# Altium schematic symbol library BQ25628E.SchLib: 1 symbol
Pins are listed as number, name and electrical type; pins without a type are passive.

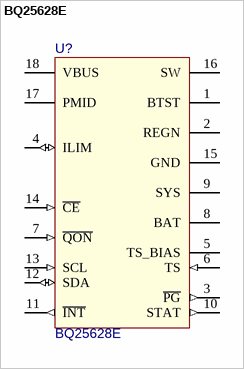
[diagram p0: symbol BQ25628E]

## BQ25628E
designator U?
I2C Controlled 1-Cell, 2A, Maximum 18V Input, Buck Battery Charger with / NVDC Power Path Management; Value: BQ25628E
footprint WQFN-HR-18(RYK)
pins: 1 BTST (power), 2 REGN (power), 3 ~{PG} (out), 4 ILIM (io), 5 TS_BIAS, 6 TS (in), 7 ~{QON} (in) "BATFET Enable or System Power Reset Control Input", 8 BAT (power), 9 SYS (power), 10 STAT (out), 11 ~{INT} (out), 12 SDA (io), 13 SCL (in), 14 ~{CE} (in), 15 GND (power), 16 SW (power), 17 PMID (power), 18 VBUS (power)